# Altium footprint library LS240D8A.PcbLib: 1 footprints
Each footprint in its own frame and in the unit in brackets; x right, y up, seen from the top. Pads: shape width x height; smd on the part's side, far side on the other; paste and mask are expansions set on the pad; w line width, h text height; cw(c..) or ccw(c..) is an arc to the next point about the centre after c.
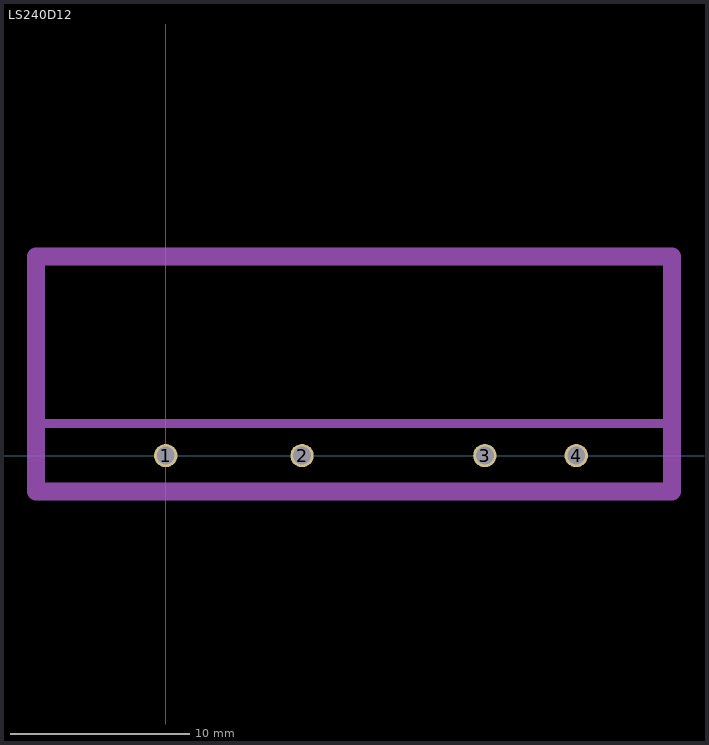
[diagram p0: the footprint, top view; thin cyan lines are the x and y axes]

## LS240D12 [mm]
pads (4):
  round 1.3 hole 1: 1(0,0) 2(7.6,0) 3(17.8,0) 4(22.9,0)
Mechanical 1:
  lines w0.5: -7.2,1.8 27.9,1.8
  lines w1: -7.25,-2 -7.25,11.1 28.25,11.1 28.25,-2 -7.25,-2
  text "-" at 22.5,2.7 h1.52
  text "+" at 17.1,2.7 h1.52
  text "~" at 6.3,2.7 h1.52
  text "~" at -0.9,2.7 h1.52